# Altium footprint library Mosfets.PcbLib: 6 footprints
Each footprint in its own frame and in the unit in brackets; x right, y up, seen from the top. Pads: shape width x height; smd on the part's side, far side on the other; paste and mask are expansions set on the pad; w line width, h text height; cw(c..) or ccw(c..) is an arc to the next point about the centre after c.
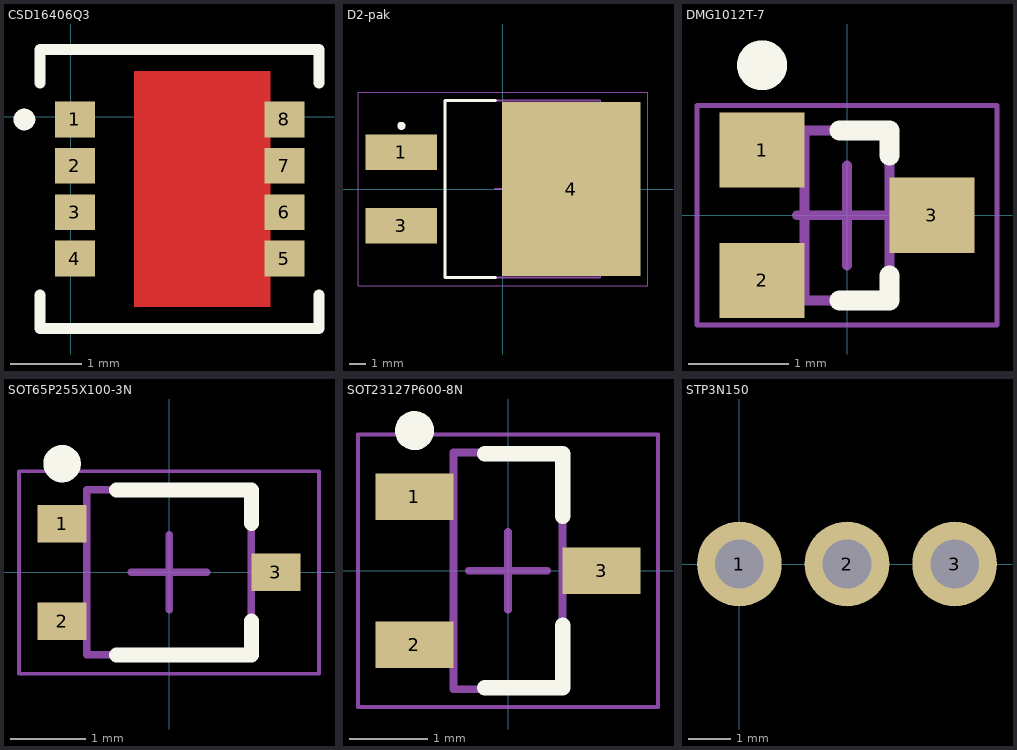
[diagram p0: the footprints below, top view; thin cyan lines are the x and y axes]

## CSD16406Q3 [mm] "N-Channel NexFET™ Power MOSFET"
pads (8):
  rect 0.56x0.5 smd paste-0.25 mask+0.05: 1(0.054,-0.041) 2(0.054,-0.691) 3(0.054,-1.341) 4(0.054,-1.991) 5(2.994,-1.991) 6(2.994,-1.341) 7(2.994,-0.691) 8(2.994,-0.041)
Top Layer:
  region: 0.889,0.635 2.794,0.635 2.794,-2.667 0.889,-2.667 0.889,0.254
Top Overlay:
  circle w0.152: c-0.653,-0.041 r0.076
  lines w0.152: -0.432,-2.502 -0.432,-2.972 3.48,-2.972 3.48,-2.502 ; -0.432,0.47 -0.432,0.94 3.48,0.94 3.48,0.47
Top Paste:
  region: 3.249,0.184 2.739,0.184 2.739,-0.266 3.249,-0.266
  region: 3.249,-0.466 2.739,-0.466 2.739,-0.916 3.249,-0.916
  region: 3.249,-1.116 2.739,-1.116 2.739,-1.566 3.249,-1.566
  region: 3.249,-1.766 2.739,-1.766 2.739,-2.216 3.249,-2.216
  region: 0.309,-1.766 -0.201,-1.766 -0.201,-2.216 0.309,-2.216
  region: 0.309,-1.116 -0.201,-1.116 -0.201,-1.566 0.309,-1.566
  region: 0.309,-0.466 -0.201,-0.466 -0.201,-0.916 0.309,-0.916
  region: 0.309,0.184 -0.201,0.184 -0.201,-0.266 0.309,-0.266
Top Solder:
  region: 0.813,-2.718 0.813,0.686 1.88,0.686 2.845,0.686 2.845,-2.718 2.21,-2.718
  region: 3.344,0.279 2.644,0.279 2.644,-0.361 3.344,-0.361
  region: 3.344,-0.371 2.644,-0.371 2.644,-1.011 3.344,-1.011
  region: 3.344,-1.021 2.644,-1.021 2.644,-1.661 3.344,-1.661
  region: 3.344,-1.671 2.644,-1.671 2.644,-2.311 3.344,-2.311
  region: 0.404,-1.671 -0.296,-1.671 -0.296,-2.311 0.404,-2.311
  region: 0.404,-1.021 -0.296,-1.021 -0.296,-1.661 0.404,-1.661
  region: 0.404,-0.371 -0.296,-0.371 -0.296,-1.011 0.404,-1.011
  region: 0.404,0.279 -0.296,0.279 -0.296,-0.361 0.404,-0.361
Mechanical 13:
  circle w0: c-0.653,-0.041 r0.076
3D body "CSD16406Q3.stp": height 1.1, standoff 0, extent -0.126,-2.665 3.174,0.635

## D2-pak [mm]
height 4.83
pads (3):
  rect 4.45x2.2 smd: 1(-6.3,2.28) 3(-6.3,-2.28)
  rect 8.6x10.8 smd: 4(4.25,0)
Top Overlay:
  circle w0.25: c-6.3,3.93 r0.125
  lines w0.2: -0.45,-5.5 -3.6,-5.5 -3.6,5.5 -0.45,5.5
Mechanical 13:
  lines w0.1: -3.6,-5.5 6.05,-5.5 6.05,5.5 -3.6,5.5 -3.6,-5.5
Mechanical 15:
  lines w0.05: -9,-6 9,-6 9,6 -9,6 -9,-6
  lines w0.1: -0.5,0 0.5,0 ; 0,-0.5 0,0.5
3D body "D2-pak.step": height 4.83, standoff 0, extent -6.17,-5.5 9.075,5.5

## DMG1012T-7 [mm] "SOT523 package"
height 0.8
pads (3):
  rect 0.85x0.75 smd: 1(-0.85,0.65) 2(-0.85,-0.65) 3(0.85,0)
Top Overlay:
  circle w0.25: c-0.85,1.5 r0.125
  lines w0.2: -0.075,-0.85 0.425,-0.85 0.425,-0.6 ; -0.075,0.85 0.425,0.85 0.425,0.6
Mechanical 13:
  lines w0.1: -0.425,-0.85 0.425,-0.85 0.425,0.85 -0.425,0.85 -0.425,-0.85
Mechanical 15:
  lines w0.05: -1.5,-1.1 1.5,-1.1 1.5,1.1 -1.5,1.1 -1.5,-1.1
  lines w0.1: -0.5,0 0.5,0 ; 0,-0.5 0,0.5
3D body "DMG1012T-7.step": height 0.8, standoff 0, extent -0.975,-0.85 0.975,0.85

## SOT65P255X100-3N [mm] "SOT323, 3-Leads, Body 2.00x2.55mm, Pitch 0.65mm, IPC Medium Density"
height 1
pads (3):
  rect 0.65x0.5 smd: 1(-1.425,0.65) 2(-1.425,-0.65) 3(1.425,0)
Top Overlay:
  circle w0.25: c-1.425,1.45 r0.125
  lines w0.2: -0.7,-1.1 1.1,-1.1 1.1,-0.65 ; -0.7,1.1 1.1,1.1 1.1,0.65
Assembly Top:
  lines w0.1: -1.1,-1.1 1.1,-1.1 1.1,1.1 -1.1,1.1 -1.1,-1.1
Courtyard Top:
  lines w0.05: -2,-1.35 2,-1.35 2,1.35 -2,1.35 -2,-1.35
  lines w0.1: -0.5,0 0.5,0 ; 0,-0.5 0,0.5
3D body "SOT65P255X100-3N.step": height 1, standoff 0, extent -1.393,-1.1 1.393,1.1

## SOT23127P600-8N [mm]
height 1.12
pads (3):
  rect 1x0.6 smd: 1(-1.2,0.95) 2(-1.2,-0.95) 3(1.2,0)
Top Overlay:
  circle w0.25: c-1.2,1.8 r0.125
  lines w0.2: -0.3,-1.5 0.7,-1.5 0.7,-0.7 ; -0.3,1.5 0.7,1.5 0.7,0.7
Mechanical 13:
  lines w0.1: -0.7,-1.52 -0.7,1.52 0.7,1.52 0.7,-1.52 -0.7,-1.52
Mechanical 15:
  lines w0.05: -1.925,-1.75 -1.925,1.75 1.925,1.75 1.925,-1.75 -1.925,-1.75
  lines w0.1: -0.5,0 0.5,0 ; 0,-0.5 0,0.5
3D body "SOT23127P600-8N.step": height 1.12, standoff 0, extent -1.32,-1.52 1.32,1.52

## STP3N150 [mm] "TO-220"
pads (3):
  round 2 hole 1.15: 1(0,0) 2(2.54,0) 3(5.08,0)
3D body "TO-220_3pin_short.stp": height 19.11, standoff -3, extent -3.402,-1.75 8.482,2.65